# Altium schematic symbol library CONN_HDR_2X1.SchLib: 1 symbol
Pins are listed as number, name and electrical type; pins without a type are passive.

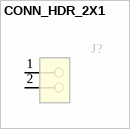
[diagram p0: symbol CONN_HDR_2X1]

## CONN_HDR_2X1
designator J?
HDR 1X2 TH 100MIL SP 342H AU 118L
pins: 1, 2